# EAGLE library part ADG719 (library ADG719)
The ADG719 is a monolithic CMOS SPDT switch. This switch is designed on a submicron process that provides low power dissipation yet gives high switching speed, low on resistance, and low leakage currents.
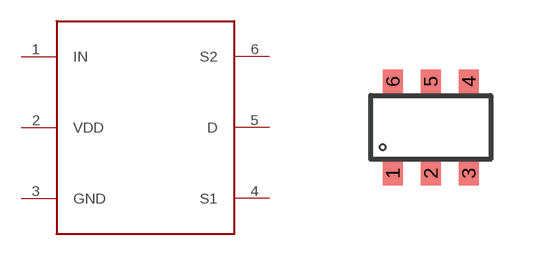
[diagram p0: symbol with the pads of ADG719; footprint ADG719]

Designator prefix -

## ADG719  [ADG719]
1  IN
2  VDD
3  GND
4  S1
5  D
6  S2

## Footprint ADG719 (pad centres in mm)
The ADG719 is a monolithic CMOS SPDT switch. This switch is designed on a submicron process that provides low power dissipation yet gives high switching speed, low on resistance, and low leakage currents.
smd 0.5 x 0.6: 1 -0.95,-1.15; 2 0,-1.15; 3 0.95,-1.15; 4 0.95,1.15; 5 0,1.15; 6 -0.95,1.15